# Altium footprint library K71-6.PcbLib: 1 footprints
Each footprint in its own frame and in the unit in brackets; x right, y up, seen from the top. Pads: shape width x height; smd on the part's side, far side on the other; paste and mask are expansions set on the pad; w line width, h text height; cw(c..) or ccw(c..) is an arc to the next point about the centre after c.
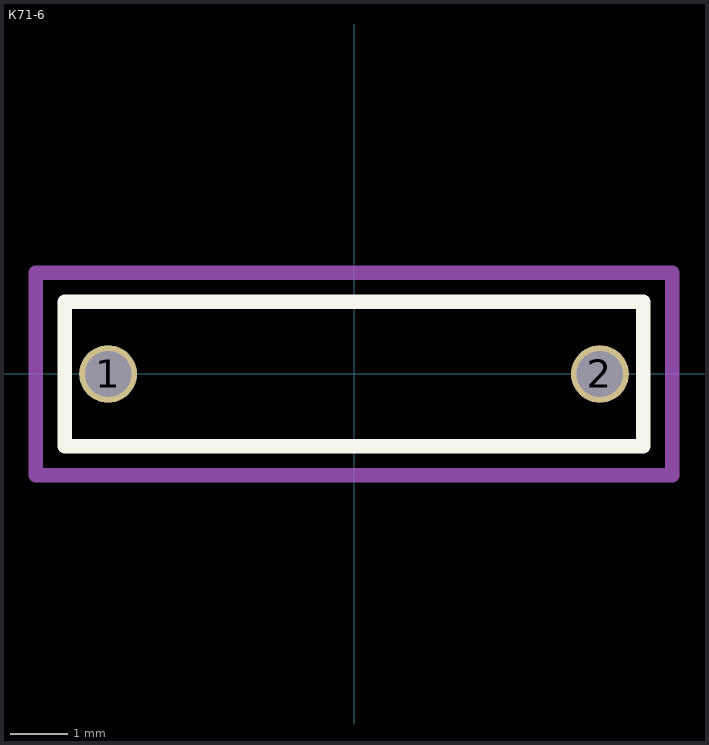
[diagram p0: the footprint, top view; thin cyan lines are the x and y axes]

## К71-6 [mm]
pads (2):
  round 1 hole 0.8: 1(-4.25,0) 2(4.25,0)
Top Overlay:
  lines w0.254: -5,-1.25 -5,1.25 5,1.25 5,-1.25 -5,-1.25
Mechanical 1:
  lines w0.254: -5.5,-1.75 -5.5,1.75 5.5,1.75 5.5,-1.75 -5.5,-1.75